# Altium footprint library FootPrnt_fact.PcbLib: 87 footprints (part 6 of 6)
Each footprint in its own frame and in the unit in brackets; x right, y up, seen from the top. Pads: shape width x height; smd on the part's side, far side on the other; paste and mask are expansions set on the pad; w line width, h text height; cw(c..) or ccw(c..) is an arc to the next point about the centre after c.
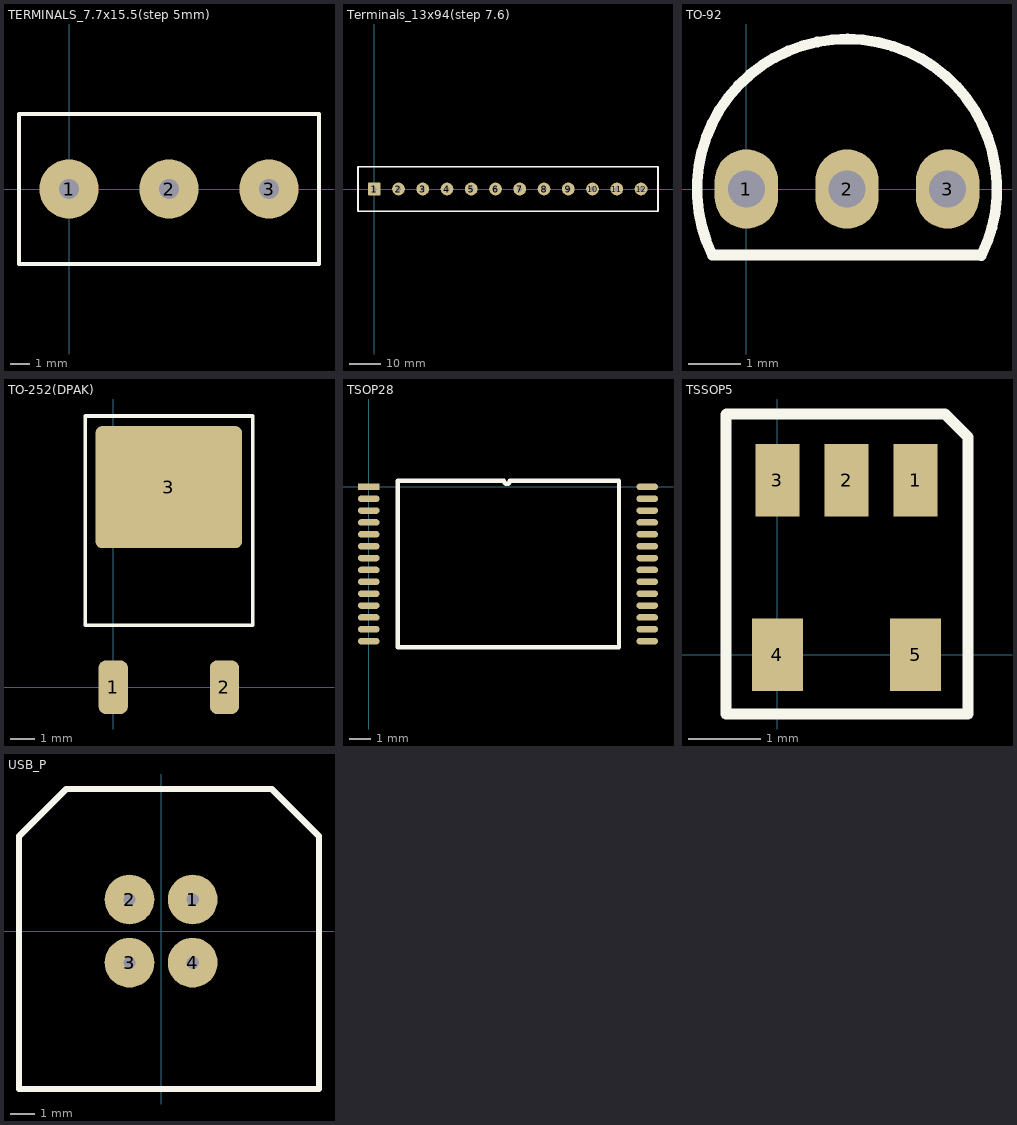
[diagram p5: the footprints below, top view; thin cyan lines are the x and y axes]

## TERMINALS_7.7x15.5(step 5mm) [mm]
pads (3):
  round 3 hole 1: 1(0,0) 2(5.08,0) 3(10.16,0)
Top Overlay:
  lines w0.2: -2.54,-3.81 12.7,-3.81 12.7,3.81 -2.54,3.81 -2.54,-3.81

## Terminals_13x94(step 7.6) [mm]
pads (12):
  rrect20% 4x4 hole 1.5: 1(0,0)
  round 4 hole 1.5: 2(7.6,0) 3(15.2,0) 4(22.8,0) 5(30.4,0) 6(38,0) 7(45.6,0) 8(53.2,0) 9(60.8,0) 10(68.4,0) 11(76,0) 12(83.6,0)
Top Overlay:
  lines w0.5: -5.08,-6.985 88.9,-6.985 88.9,6.985 -5.08,6.985 -5.08,-6.985

## TO-92 [mm]
pads (3):
  oval 1.2x1.5 hole 0.7: 1(0,0) 2(1.905,0) 3(3.81,0)
Top Overlay:
  lines w0.2: 4.447,-1.266 ccw(c1.905,0) -0.645,-1.249 4.447,-1.249

## TO-252(DPAK) [mm]
pads (3):
  rrect50% 1.2x2.2 smd: 1(0,0) 2(4.56,0)
  rrect10% 6x5 smd: 3(2.28,8.2)
Top Overlay:
  lines w0.15: -1.139,2.54 -1.139,11.118 5.715,11.118 5.715,2.54 -1.139,2.54

## TSOP28 [mm]
pads (28):
  rect 1x0.3 smd: 1(0,0)
  oval 1x0.3 smd: 2(0,-0.55) 3(0,-1.1) 4(0,-1.65) 5(0,-2.2) 6(0,-2.75) 7(0,-3.3) 8(0,-3.85) 9(0,-4.4) 10(0,-4.95) 11(0,-5.5) 12(0,-6.05) 13(0,-6.6) 14(0,-7.15) 15(12.9,-7.15) 16(12.9,-6.6) 17(12.9,-6.05) 18(12.9,-5.5) 19(12.9,-4.95) 20(12.9,-4.4) 21(12.9,-3.85) 22(12.9,-3.3) 23(12.9,-2.75) 24(12.9,-2.2) 25(12.9,-1.65) 26(12.9,-1.1) 27(12.9,-0.55) 28(12.9,0)
Top Overlay:
  lines w0.2: 1.335,-7.425 11.593,-7.425 11.593,0.275 6.537,0.275 cw(c6.4,0.275) 6.263,0.275 1.335,0.275 1.335,-7.425

## TSSOP5 [mm]
pads (5):
  rect 0.6x1 smd: 1(1.9,2.4) 2(0.95,2.4) 3(0,2.4)
  rect 0.7x1 smd: 4(0,0) 5(1.9,0)
Top Overlay:
  lines w0.15: -0.707,-0.816 2.62,-0.816 2.62,2.997 2.304,3.313 -0.7,3.313 -0.707,3.306 -0.707,-0.816

## USB_P [mm]
pads (4):
  round 2 hole 0.5: 1(1.27,1.27) 2(-1.27,1.27) 3(-1.27,-1.27) 4(1.27,-1.27)
Top Overlay:
  lines w0.254: -5.715,-6.35 -5.715,3.81 -3.81,5.715 4.445,5.715 6.35,3.81 6.35,-6.35 -5.715,-6.35